# EAGLE library part HEADER-1X10 (library magzor)
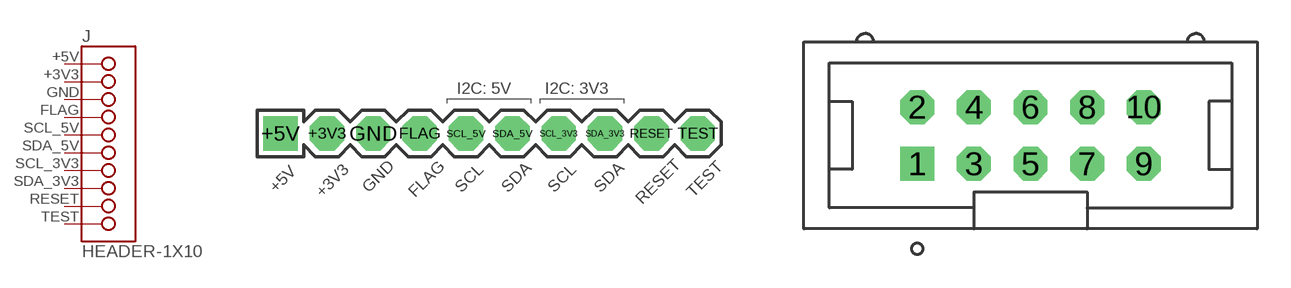
[diagram p18: symbol with the pads of HEADER-1X10-I2C-HUB; footprints HEADER-1X10-I2C-HUB, HEADER-2X05-ROW-PARITY]

Designator prefix J

## HEADER-1X10-I2C-HUB  [HEADER-1X10-I2C-HUB]
+3V3  2
+5V  1
FLAG  4
GND  3
RESET  9
SCL_3V3  7
SCL_5V  5
SDA_3V3  8
SDA_5V  6
TEST  10

## HEADER-1X10-2X05  [HEADER-2X05-ROW-PARITY]
1  1
2  2
3  3
4  4
5  5
6  6
7  7
8  8
9  9
10  10

## Footprint HEADER-1X10-I2C-HUB (pad centres in mm)
drill 1.016 pad 1.88 octagon: +3V3 -8.89,0; FLAG -3.81,0; GND -6.35,0; RESET 8.89,0; SCL_3V3 3.81,0; SCL_5V -1.27,0; SDA_3V3 6.35,0; SDA_5V 1.27,0; TEST 11.43,0
drill 1.016 pad 1.88 square: +5V -11.43,0

## Footprint HEADER-2X05-ROW-PARITY (pad centres in mm)
row parity: all odd numbered pins on one side
drill 1.016 square: 1 -5.08,-1.27
drill 1.016 octagon: 2 -5.08,1.27; 3 -2.54,-1.27; 4 -2.54,1.27; 5 0,-1.27; 6 0,1.27; 7 2.54,-1.27; 8 2.54,1.27; 9 5.08,-1.27; 10 5.08,1.27